# EAGLE library part MD-60SM (library con-cui)
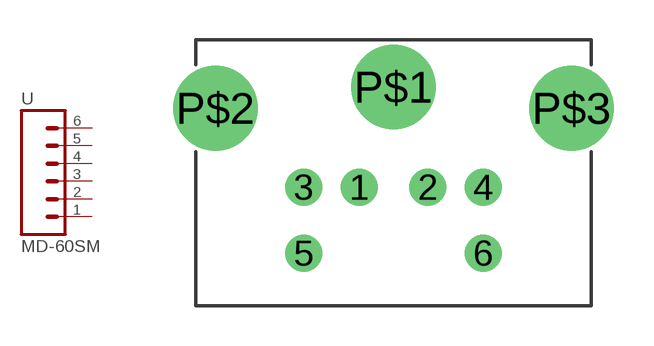
[diagram p0: symbol with the pads of MD-60SM; footprint MD-60SM]

Designator prefix -

## MD-60SM  [MD-60SM]
1  1  pas
2  2  pas
3  3  pas
4  4  pas
5  5  pas
6  6  pas

## Footprint MD-60SM (pad centres in mm)
drill 0.9: 1 -1.3,-3.8; 2 1.3,-3.8; 3 -3.4,-3.8; 4 3.4,-3.8; 5 -3.4,-6.3; 6 3.4,-6.3
drill 2.2: P$1 0,0; P$2 -6.75,-0.8; P$3 6.75,-0.8